# Altium schematic symbol library Connectors.SchLib: 325 symbols (part 4 of 4)
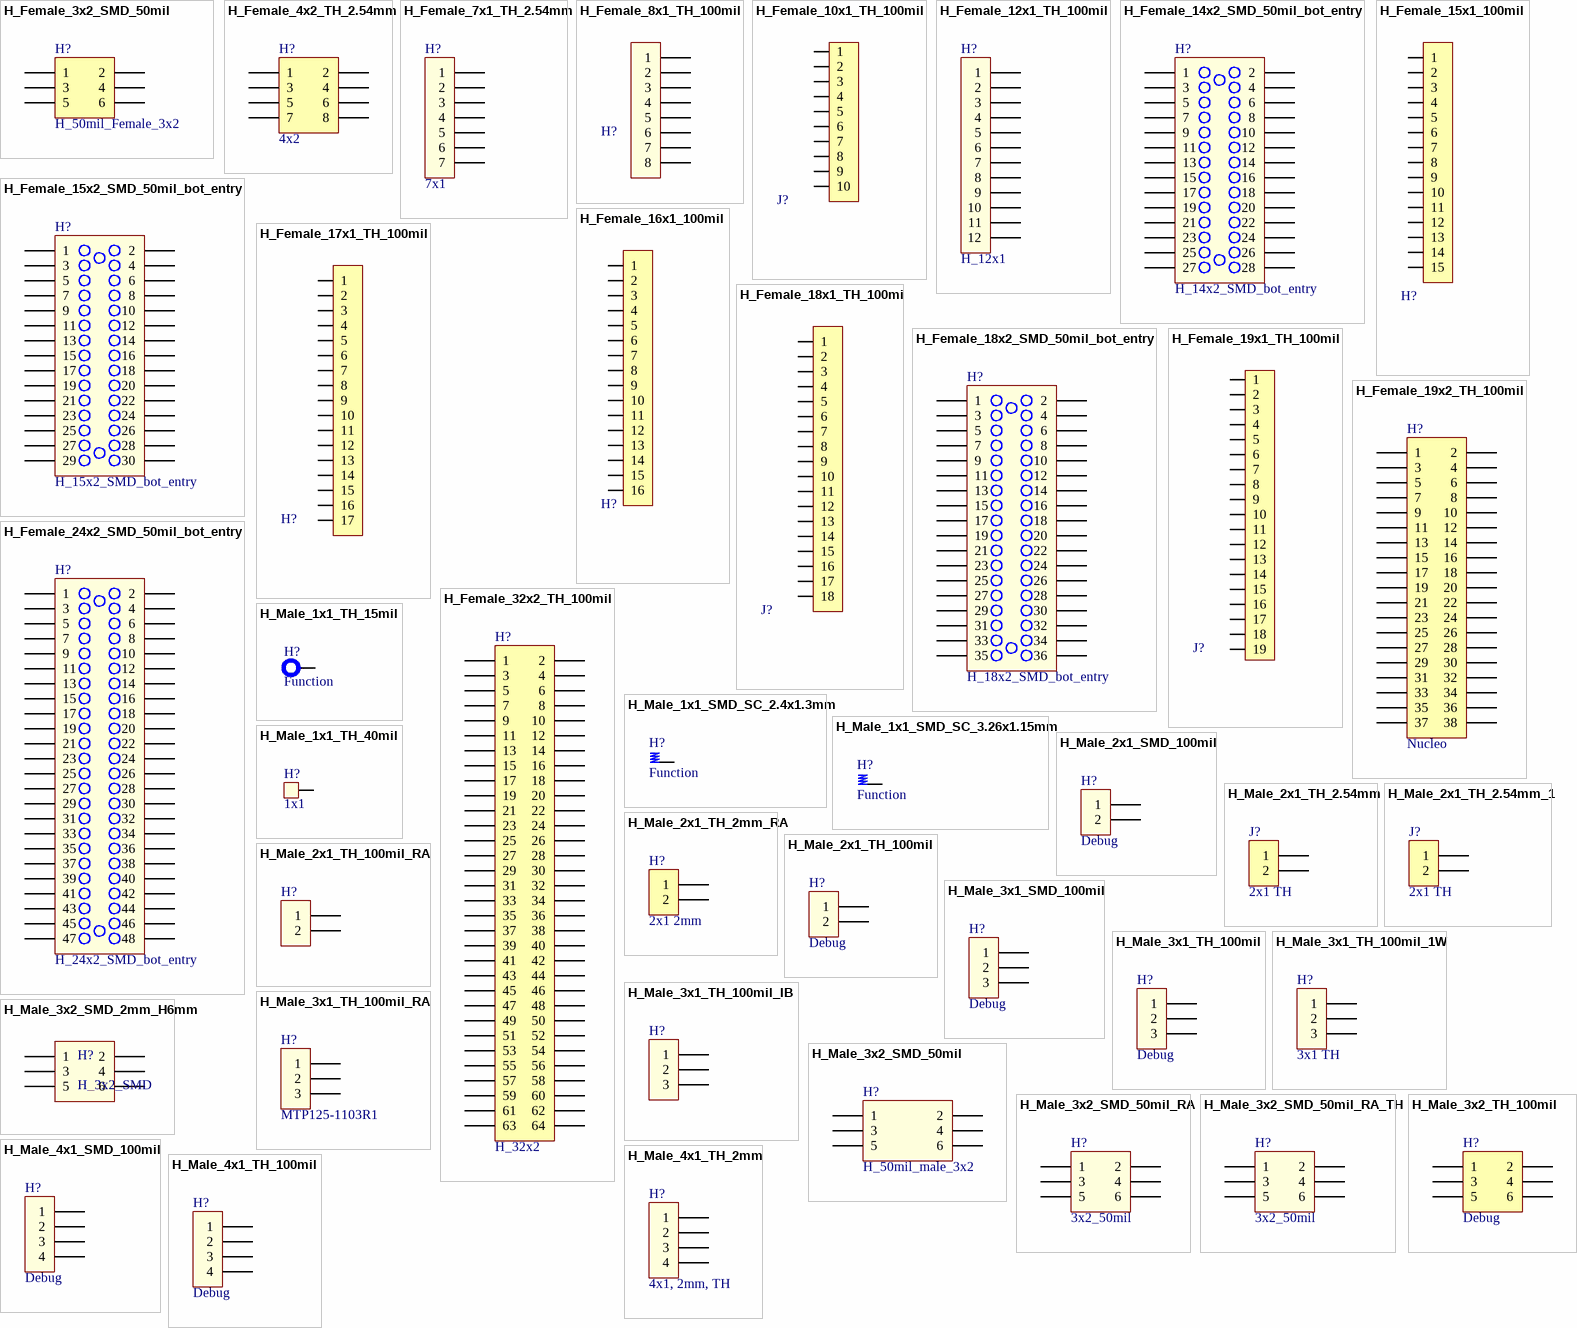
[diagram p12: symbols H_Female_3x2_SMD_50mil to H_Male_4x1_TH_100mil]

## H_Male_3x2_SMD_50mil_RA_TH
designator H?, comment 3x2_50mil
CONN HEADER TH R/A 6POS 1.27MM; Manufacturer Part Number: PH1.27x2.5-2x3WG2P1M2 B=4mm; Manufacturer: Realrun; Last modified date: 20240310; Last modified by: J.Jaramillo; Reel Stock: N/A; Supplier 1: Poshton; Supplier Part Number 1: PH1.27x2.5-2x3WG2P1M2 B=4mm; ComponentLink1URL: https://www.digikey.tw/products/en?keywords=3M6475-ND
footprint H_3x2_TH_50mil_R/A (/ 20200416/ C-A.Serna.A)
pins: 1, 2, 3, 4, 5, 6

## H_Male_3x2_TH_100mil
designator H?, comment Debug  (no BOM)
Debugging male pin; Last modified by: J.Jaramillo; Last modified date: 20240310; Reel Stock: N/A
footprint H_3x2_TH_100mil (/ 20190222 / C-A.Serna.A)
pins: 1, 2, 3, 4, 5, 6

## H_Male_4x1_SMD_100mil
designator H?, comment Debug  (no BOM)
Debugging male pin SMT; Last modified by: J.Jaramillo; Last modified date: 20240310; Reel Stock: N/A
footprint H_4x1_SMD_100mil (/ 20190221 / C-A.Serna.A)
pins: 1, 2, 3, 4

## H_Male_4x1_TH_2mm
designator H?, comment 4x1, 2mm, TH
CONN HEADER VERT 4POS 2MM; Manufacturer: M22-2010405; Manufacturer Part Number: Harwin Inc.; Supplier 1: Digi-Key; Supplier Part Number 1: 952-2275-ND; Reel Stock: N/A; Last modified by: J.Jaramillo; Last modified date: 20240310; ComponentLink1Description: Digi-Key; ComponentLink1URL: https://www.digikey.com/en/products/detail/harwin-inc/M22-2010405/3728239
footprint H_4x1_TH_2mm (/20210714/M-C.Calderon)
pins: 1, 2, 3, 4

## H_Male_4x1_TH_100mil
designator H?, comment Debug  (no BOM)
Debugging male pin; Last modified by: J.Jaramillo; Last modified date: 20240310; Reel Stock: N/A
footprint H_4x1_TH_100mil (/ 20190222 / C-A.Serna.A)
pins: 1, 2, 3, 4

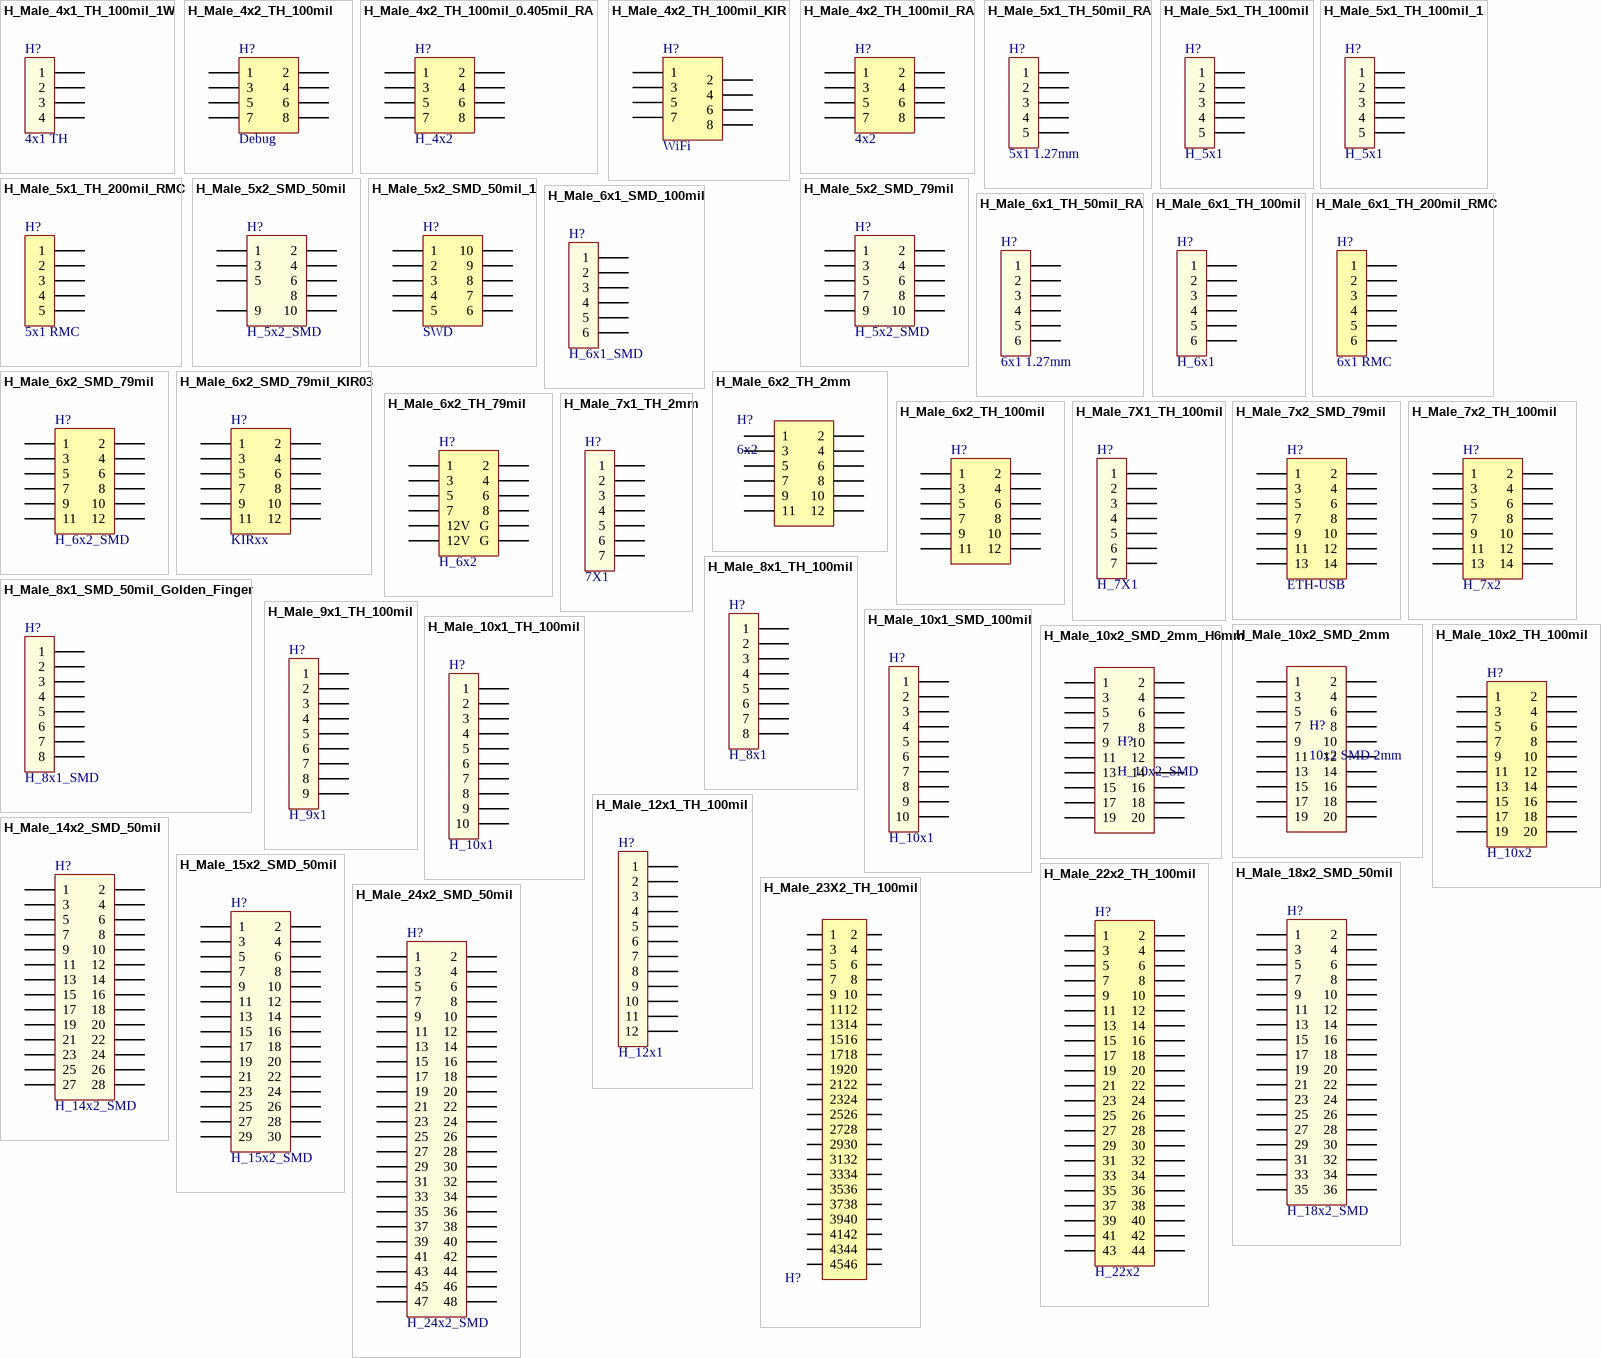
[diagram p8: symbols H_Male_4x1_TH_100mil_1W to H_Male_24x2_SMD_50mil]

## H_Male_4x1_TH_100mil_1W
designator H?, comment 4x1 TH
CONN HEADER VERT 4POS 2.54MM; Manufacturer: Molex; Manufacturer Part Number: 0022232041; Supplier 1: Digi-Key; Supplier Part Number 1: WM4202-ND; Reel Stock: N/A; Last modified by: J.Jaramillo; Last modified date: 20240310; ComponentLink1Description: Digi-Key; ComponentLink1URL: https://www.digikey.com/product-detail/en/molex/0022232041/WM4202-ND/26671
footprint H_4X1_TH_100mil_1W (/20200319/C-A.Serna.A)
pins: 1, 2, 3, 4

## H_Male_4x2_TH_100mil
designator H?, comment Debug  (no BOM)
Header Debuggind Male Pin; Last modified by: J.Jaramillo; Last modified date: 20240310; Reel Stock: N/A
footprint H_4x2_TH_100MIL (/ 20210215 / M-C.Calderon)
footprint H_4x2_TH_100mil_BRK (/20210423/M-C.Calderon)
pins: 1, 2, 3, 4, 5, 6, 7, 8

## H_Male_4x2_TH_100mil_0.405mil_RA
designator H?, comment H_4x2
CONN HEADER R/A 8POS 2.54MM; Manufacturer: 3M; Manufacturer Part Number: 929838-02-04-RK; Supplier 1: Digi-Key; Supplier Part Number 1: 3M156514-08-ND; Reel Stock: N/A; Last modified by: J.Jaramillo; Last modified date: 20240310; ComponentLink1Description: Digi-Key; ComponentLink1URL: https://www.digikey.com/en/products/detail/3m/929838-02-04-RK/1094113?s=N4IgTCBcDaIMwFkAEBGArANjSgLAWgAYAOPAOQBEQBdAXyA
footprint H_MALE_4x2_TH_100MIL_0.405MIL_RA (A-F. Romo / 20221019)
pins: 1, 2, 3, 4, 5, 6, 7, 8

## H_Male_4x2_TH_100mil_KIR
designator H?, comment WiFi
Header for WiFi breakout KIR01; Manufacturer: TBD; Last modified by: J.Jaramillo; Last modified date: 20240310; Manufacturer Part Number: TBD; Supplier 1: Poshton; Supplier Part Number 1: TBD; Reel Stock: N/A
footprint H_4x2_TH_100mil_KIR (/ 20190221 / C-A.Serna.A)
pins: 1, 2, 3, 4, 5, 6, 7, 8

## H_Male_4x2_TH_100mil_RA
designator H?, comment 4x2
HEADER 8 POS 100MIL; Manufacturer: XFCN; Manufacturer Part Number: PZ254R-12-8P; Supplier 1: LCSC; Supplier Part Number 1: C492432; Reel Stock: N/A; Last modified by: J.Jaramillo; Last modified date: 20240310; ComponentLink1Description: LCSC; ComponentLink1URL: https://lcsc.com/product-detail/Pin-Header-Female-Header_XFCN-PZ254R-12-8P_C492432.html
footprint H_4x2_TH_100MIL_RA (/ 20210827 / N-A.Potosi)
pins: 1, 2, 3, 4, 5, 6, 7, 8

## H_Male_5x1_TH_50mil_RA
designator H?, comment 5x1 1.27mm
CONN HEADER R/A 5POS 1.27MM; Manufacturer: Harwin Inc.; Manufacturer Part Number: M50-3930542; Supplier 1: Digi-Key; Supplier Part Number 1: 952-3617-ND; Reel Stock: N/A; Last modified by: J.Jaramillo; Last modified date: 20240310; ComponentLink1Description: Digi-Key; ComponentLink1URL: https://www.digikey.com/en/products/detail/harwin-inc/M50-3930542/7044032
footprint H_MALE_5X1_TH_50MIL_RA (20220518 / E.Naranjo)
pins: 1, 2, 3, 4, 5

## H_Male_5x1_TH_100mil
designator H?, comment H_5x1  (no BOM)
Debugging male pin; Last modified by: J.Jaramillo; Last modified date: 20240310; Reel Stock: N/A
footprint H_5x1_TH_100mil (/ 20190222 / C-A.Serna.A)
pins: 1, 2, 3, 4, 5

## H_Male_5x1_TH_100mil_1
designator H?, comment H_5x1
CONN HEADER VERT 5POS 2.54MM; Manufacturer: Adam Tech; Manufacturer Part Number: PH1-05-UA; Supplier 1: Digi-Key; Supplier Part Number 1: 2057-PH1-05-UA-ND; Last modified by: J.Jaramillo; Last modified date: 20240310; Reel Stock: N/A; ComponentLink1Description: Digi-key; ComponentLink1URL: https://www.digikey.com/product-detail/en/adam-tech/PH1-05-UA/2057-PH1-05-UA-ND/9830343
footprint H_5x1_TH_100mil_1 (/ 20191121 / J-P.Vargas.A)
pins: 1, 2, 3, 4, 5

## H_Male_5x1_TH_200mil_RMC
designator H?, comment 5x1 RMC
CONN HEADER VERT 5POS 5.08MM; Manufacturer: Molex; Manufacturer Part Number: 0010085051; Supplier 1: Digi-Key; Supplier Part Number 1: WM4334-ND; Reel Stock: N/A; Last modified by: J.Jaramillo; Last modified date: 20240310; ComponentLink1Description: Digi-Key; ComponentLink1URL: https://www.digikey.com/product-detail/en/molex/0010085051/WM4334-ND/2421265
footprint H_5x1_TH_200mil_RMC (/ 20200321/ C-A.Serna.A)
pins: 1, 2, 3, 4, 5

## H_Male_5x2_SMD_50mil
designator H?, comment H_5x2_SMD
CONN HEADER 10POS DL UNSHRD SMD; Manufacturer: Amphenol FCI; Manufacturer Part Number: 20021121-00010C4LF; ComponentLink1URL: https://www.digikey.tw/products/en?keywords=609-3695-1-ND; Last modified by: J.Jaramillo; Last modified date: 20240310; ComponentLink1Description: Digi-key; Reel Stock: N/A; Supplier 1: Digi-Key; Supplier Part Number 1: 609-3695-1-ND
footprint H_5x2_SMD_50mil_nRF (/ 20190222 / C-A.Serna.A)
pins: 1, 2, 3, 4, 5, 6, 8, 9, 10

## H_Male_5x2_SMD_50mil_1
designator H?, comment SWD
CONN HEADER SMD 10POS 1.27MM; Manufacturer: Amphenol ICC (FCI); Manufacturer Part Number: 20021121-00010C4LF; Supplier 1: Digi-key; Supplier Part Number 1: 609-3695-1-ND; Reel Stock: N/A; Last modified by: J.Jaramillo; Last modified date: 20240310; ComponentLink1Description: Digi-key; ComponentLink1URL: https://www.digikey.com/products/en?keywords=609-3695-1-ND
footprint H_5x2_SMD_50MIL (/20200728/M-C.Calderon)
pins: 1, 2, 3, 4, 5, 6, 7, 8, 9, 10

## H_Male_5x2_SMD_79mil
designator H?, comment H_5x2_SMD
CONN HEADER SMD 10POS 2MM; Manufacturer: Amphenol ICC (FCI); Manufacturer Part Number: 57202-G52-05LF; ComponentLink1URL: https://www.digikey.com/products/en?keywords=609-2610-ND; Last modified by: J.Jaramillo; Last modified date: 20240310; ComponentLink1Description: Digi-key; Reel Stock: N/A; Supplier 1: Digi-Key; Supplier Part Number 1: 609-2610-ND
footprint H_5x2_SMD_79mil (/ 20190909 / C-D Viveros)
pins: 1, 2, 3, 4, 5, 6, 7, 8, 9, 10

## H_Male_6x1_SMD_100mil
designator H?, comment H_6x1_SMD  (no BOM)
CONN HEADER SMD 6POS 2.54MM; Manufacturer: METZ CONNECT USA Inc.; Manufacturer Part Number: PM20206VBNN; Last modified by: J.Jaramillo; Last modified date: 20240310; Reel Stock: N/A; ComponentLink1URL: https://www.digikey.tw/products/en?keywords=1849-1036-ND; ComponentLink1Description: Digi-Key; Supplier 1: Digi-Key; Supplier Part Number 1: 1849-1036-ND
footprint H_6x1_SMD_100mil (/ 20190222 / C-A.Serna.A)
pins: 1, 2, 3, 4, 5, 6

## H_Male_6x1_TH_50mil_RA
designator H?, comment 6x1 1.27mm
CONN HEADER R/A 6POS 1.27MM; Manufacturer: Harwin Inc.; Manufacturer Part Number: M50-3930642; Supplier 1: Digi-Key; Supplier Part Number 1: 952-3618-ND; Reel Stock: N/A; Last modified by: J.Jaramillo; Last modified date: 20240310; ComponentLink1Description: Digi-Key; ComponentLink1URL: https://www.digikey.com/en/products/detail/harwin-inc/M50-3930642/7044033?s=N4IgTCBcDaIJwFYwFoDMA2AjADmQOQBEQBdAXyA
footprint H_MALE_6X1_1.27MM_RA (20220516 / E.Naranjo)
pins: 1, 2, 3, 4, 5, 6

## H_Male_6x1_TH_100mil
designator H?, comment H_6x1  (no BOM)
Debugging male pin; Last modified by: J.Jaramillo; Last modified date: 20240310; Reel Stock: N/A
footprint H_6x1_TH_100mil (/ 20190222 / C-A.Serna.A)
pins: 1, 2, 3, 4, 5, 6

## H_Male_6x1_TH_200mil_RMC
designator H?, comment 6x1 RMC
CONN HEADER VERT 6POS 5.08MM; Manufacturer: Molex; Manufacturer Part Number: 0010085061; Supplier 1: Digi-Key; Supplier Part Number 1: WM4335-ND; Reel Stock: N/A; Last modified by: J.Jaramillo; Last modified date: 20240310; ComponentLink1Description: Digi-Key; ComponentLink1URL: https://www.digikey.com/product-detail/en/molex/0010085061/WM4335-ND/2421266
footprint H_6x1_TH_200mil_RMC (/ 20200321/ C-A.Serna.A)
pins: 1, 2, 3, 4, 5, 6

## H_Male_6x2_SMD_79mil
designator H?, comment H_6x2_SMD
CONN HEADER SMD 12POS 2MM; Manufacturer Part Number: 0877591274; Manufacturer: Molex; ComponentLink1URL: https://www.digikey.com/products/en?keywords=WM3790CT-ND; Last modified date: 20240310; Last modified by: J.Jaramillo; Reel Stock: N/A; Supplier 1: Digi-key; Supplier Part Number 1: WM3790CT-ND; ComponentLink1Description: Digi-key; ComponentLink1URL: https://www.digikey.tw/products/en?keywords=3M6475-ND
footprint H_6x2_SMD_79mil (/ 20200722 /C-D Viveros)
pins: 1, 2, 3, 4, 5, 6, 7, 8, 9, 10, 11, 12

## H_Male_6x2_SMD_79mil_KIR03
designator H?, comment KIRxx
CONN HEADER SMD 12POS 2MM; Manufacturer: Molex; Manufacturer Part Number: 0877591274; Supplier 1: Digi-Key; Supplier Part Number 1: WM3790CT-ND; Reel Stock: N/A; Last modified by: J.Jaramillo; Last modified date: 20240310; ComponentLink1Description: Digi-Key; ComponentLink1URL: https://www.digikey.com/products/en?keywords=WM3790CT-ND
footprint H_6x2_SMD_79mil_KIRxx_2 (/20200429/V-A.Patino)
footprint H_6x2_SMD_79mil_KIRxx_1 (/20200429/V-A.Patino)
pins: 1, 2, 3, 4, 5, 6, 7, 8, 9, 10, 11, 12

## H_Male_6x2_TH_2mm
designator H?, comment 6x2
CONN HEADER VERT 12POS 2MM; Manufacturer: Amphenol ICC (FCI); Manufacturer Part Number: 57102-G06-06LF; Supplier 1: Digi-Key; Supplier Part Number 1: 609-2595-ND; Reel Stock: N/A; Last modified by: J.Jaramillo; Last modified date: 20240310; ComponentLink1Description: Digi-Key; ComponentLink1URL: https://www.digikey.com/en/products/detail/amphenol-cs-fci/57102-G06-06LF/1090066?s=N4IgTCBcDaIKwHYCMAGMBaA4igbO3AMgGIgC6AvkA
footprint H_MALE_6X2_TH_2MM (20230627 / E.Naranjo)
pins: 1, 2, 3, 4, 5, 6, 7, 8, 9, 10, 11, 12

## H_Male_6x2_TH_79mil
designator H?, comment H_6x2
CONN HEADER R/A 12POS 2MM; Manufacturer: Samtec Inc.; Manufacturer Part Number: TMM-106-01-T-D-RA; Supplier 1: Digi-key; Supplier Part Number 1: SAM12165-ND; Last modified by: J.Jaramillo; Last modified date: 20240310; Reel Stock: N/A; ComponentLink1Description: Digi-key; ComponentLink1URL: https://www.digikey.com/product-detail/en/samtec-inc/TMM-106-01-T-D-RA/SAM12165-ND/6691921
footprint H_6x2_TH_79MIL_PSU_KIRXX (20190515 / V-A.Patino)
pins: 1, 2, 3, 4, 5, 6, 7, 8, 9 12V, 10 G, 11 12V, 12 G

## H_Male_6x2_TH_100mil
designator H?
CONN HEADER SMD 12POS 2.54MM; Manufacturer: Amphenol ICC (FCI); Manufacturer Part Number: 10129381-912002BLF; Supplier 1: Digi-Key; Supplier Part Number 1: 10129381-912002BLF-ND; Reel Stock: N/A; Last modified by: J.Jaramillo; Last modified date: 20240310; ComponentLink1Description: Digi-Key; ComponentLink1URL: https://www.digikey.com/en/products/detail/amphenol-icc-fci/10129381-912002BLF/7916083
footprint H_6x2_TH_100mil (/ 20210811 / V-A.Patino)
pins: 1, 2, 3, 4, 5, 6, 7, 8, 9, 10, 11, 12

## H_Male_7x1_TH_2mm
designator H?, comment 7X1
WR-WTB WIRE-TO-BOARD CONNECTORS; Manufacturer: Würth Elektronik; Manufacturer Part Number: 62000711622; Supplier 1: Digi-Key; Supplier Part Number 1: 62000711622; Reel Stock: N/A; Last modified by: J.Jaramillo; Last modified date: 20240310; ComponentLink1Description: Digi-Key; ComponentLink1URL: https://www.digikey.com/en/products/detail/w%C3%BCrth-elektronik/62000711622/16608572?s=N4IgTCBcDaIGxgAzIOwEY0IgXQL5A
footprint H_7x1_TH_79MIL (/20220804/J-E.Pachon)
pins: 1, 2, 3, 4, 5, 6, 7

## H_Male_7X1_TH_100mil
designator H?, comment H_7X1  (no BOM)
CONN HEADER VERT 7POS 2.54MM; Manufacturer: Sullins Connector Solutions; Manufacturer Part Number: PREC007SAAN-RC; Last modified by: J.Jaramillo; Last modified date: 20240310; Supplier 1: Digi-Key; Supplier Part Number 1: S1012EC-07-ND; Reel Stock: N/A; ComponentLink1Description: Digi-Key; ComponentLink1URL: https://www.digikey.com/en/products/detail/sullins-connector-solutions/PREC007SAAN-RC/2774847?s=N4IgTCBcDaIMoEYAMCwFEDCBaJB2LAcgCIgC6AvkA
footprint H_7x1_TH_100mil (/ 20190829 / M-X.Arias)
pins: 1, 2, 3, 4, 5, 6, 7

## H_Male_7x2_SMD_79mil
designator H?, comment ETH-USB
CONN HEADER SMD 14POS 2MM; Manufacturer: Amphenol ICC (FCI); Manufacturer Part Number: 57202-G52-07LF; Supplier 1: Digi-Key; Supplier Part Number 1: 609-2619-ND; Reel Stock: N/A; Last modified by: J.Jaramillo; Last modified date: 20240310; ComponentLink1Description: Digi-Key; ComponentLink1URL: https://www.digikey.com/products/en?keywords=609-2619-ND
footprint H_7X2_SMD_79MIL (/20200714/N-A.Potosi)
pins: 1, 2, 3, 4, 5, 6, 7, 8, 9, 10, 11, 12, 13, 14

## H_Male_7x2_TH_100mil
designator H?, comment H_7x2  (no BOM)
CONN HEADER VERT 14POS 2.54MM; Manufacturer: Sullins Connector Solutions; Manufacturer Part Number: PREC007DAAN-RC; Supplier 1: Digi-Key; Supplier Part Number 1: S2012EC-07-ND; Last modified by: J.Jaramillo; Last modified date: 20240310; Reel Stock: N/A; ComponentLink1Description: Digi-Key; ComponentLink1URL: https://www.digikey.com/product-detail/en/sullins-connector-solutions/PREC007DAAN-RC/S2012EC-07-ND/2774887
footprint H_7x2_TH_100mil (/ 20190614 / J-P.Vargas.A)
pins: 1, 2, 3, 4, 5, 6, 7, 8, 9, 10, 11, 12, 13, 14

## H_Male_8x1_SMD_50mil_Golden_Finger
designator H?, comment H_8x1_SMD  (no BOM)
CBL RIBN 8COND 0.050 GRAY 1'; Manufacturer: 3M; Manufacturer Part Number: 3365/08 100; Last modified by: J.Jaramillo; Last modified date: 20240310; Reel Stock: N/A; Supplier 1: Digi-Key; Supplier Part Number 1: 3M155833-1-STRIPPED-ND; ComponentLink1Description: Digi-Key; ComponentLink1URL: https://www.digikey.com/product-detail/en/3m/3365-08-100/3M155833-1-STRIPPED-ND/8635323
footprint H_8x1_SMD_50mil (/ 20190916/ N A potosi)
pins: 1, 2, 3, 4, 5, 6, 7, 8

## H_Male_8x1_TH_100mil
designator H?, comment H_8x1  (no BOM)
Debugging male pin; Last modified by: J.Jaramillo; Last modified date: 20240310; Reel Stock: N/A
footprint H_8x1_TH_100mil (/ 20190823 / C-D Viveros)
pins: 1, 2, 3, 4, 5, 6, 7, 8

## H_Male_9x1_TH_100mil
designator H?, comment H_9x1  (no BOM)
Debugging male pin; Last modified by: J.Jaramillo; Last modified date: 20240310; Reel Stock: N/A
footprint H_9x1_TH_100mil (/ 20190919 / C-D Viveros)
pins: 1, 2, 3, 4, 5, 6, 7, 8, 9

## H_Male_10x1_SMD_100mil
designator H?, comment H_10x1
CONN HEADER SMD 10POS 2.54MM; Manufacturer: Amphenol ICC (FCI); Manufacturer Part Number: 10129380-910002ALF; Supplier 1: Digi-Key; Supplier Part Number 1: 609-10129380-910002ALFCT-ND; Last modified by: J.Jaramillo; Last modified date: 20240310; Reel Stock: N/A
footprint H_10x1_SMD_100mil (/ 20210811 / V-A.Patino)
pins: 1, 2, 3, 4, 5, 6, 7, 8, 9, 10

## H_Male_10x1_TH_100mil
designator H?, comment H_10x1  (no BOM)
Debugging male pin; Last modified by: J.Jaramillo; Last modified date: 20240310; Reel Stock: N/A
footprint H_10x1_TH_100mil (/ 20190911 / C-D Viveros)
pins: 1, 2, 3, 4, 5, 6, 7, 8, 9, 10

## H_Male_10x2_SMD_2mm
designator H?, comment 10x2 SMD 2mm
CONN HEADER SMD 20POS 2MM; Manufacturer: Molex; Manufacturer Part Number: 0877592074; Supplier 1: Digi-Key; Supplier Part Number 1: WM26782CT-ND; Reel Stock: N/A; Last modified by: J.Jaramillo; Last modified date: 20240310; ComponentLink1Description: Digi-Key; ComponentLink1URL: https://www.digikey.com/en/products/detail/molex/0877592074/3313034?s=N4IgTCBcDaIBwHYEFYCcBaMAGBAWEAugL5A
footprint H_10x2_SMD_2mm (/20230119/J-A.Sepulveda)
pins: 1, 2, 3, 4, 5, 6, 7, 8, 9, 10, 11, 12, 13, 14, 15, 16, 17, 18, 19, 20

## H_Male_10x2_SMD_2mm_H6mm
designator H?, comment H_10x2_SMD
CONN HEADER SMD 20POS 2MM; Manufacturer: RealRun Electronic; Manufacturer Part Number: PH2.0*1.5-2*10T B3.9 W6.5 E2.1 6T 1U (WITH POST); Supplier 1: Poshton; Supplier Part Number 1: PH2.0*1.5-2*10T B3.9 W6.5 E2.1 6T 1U (WITH POST); Reel Stock: N/A; Last modified by: J.Jaramillo; Last modified date: 20240310; ComponentLink1Description: Datasheet; ComponentLink1URL: https://drive.google.com/file/d/1JPzu1F8oawhlm6ms1WCOraaywETR9AVm/view?usp=drive_link
footprint H_Male_10x2_SMD_2mm_H6mm (/20230621/J-A.Sepulveda)
pins: 1, 2, 3, 4, 5, 6, 7, 8, 9, 10, 11, 12, 13, 14, 15, 16, 17, 18, 19, 20

## H_Male_10x2_TH_100mil
designator H?, comment H_10x2  (no BOM)
CONN HEADER VERT 20POS 2.54MM; Manufacturer: Sullins Connector Solutions; Manufacturer Part Number: PREC010DAAN-RC; Supplier 1: Digi-Key; Supplier Part Number 1: S2012EC-10-ND; Last modified by: J.Jaramillo; Last modified date: 20240310; Reel Stock: N/A; ComponentLink1Description: Digi-Key; ComponentLink1URL: https://www.digikey.com/product-detail/en/sullins-connector-solutions/PREC010DAAN-RC/S2012EC-10-ND/2774884
footprint H_10x2_TH_100mil (/ 20190625 / J-P.Vargas.A)
pins: 1, 2, 3, 4, 5, 6, 7, 8, 9, 10, 11, 12, 13, 14, 15, 16, 17, 18, 19, 20

## H_Male_12x1_TH_100mil
designator H?, comment H_12x1
CONN HEADER VERT 12POS 2.54MM; Manufacturer: Adam Tech; Manufacturer Part Number: PH1-12-UA; Supplier 1: Digi-Key; Supplier Part Number 1: 2057-PH1-12-UA-ND; Last modified by: J.Jaramillo; Last modified date: 20240310; Reel Stock: N/A; ComponentLink1Description: Digi-Key; ComponentLink1URL: https://www.digikey.com/en/products/detail/adam-tech/PH1-12-UA/9830395
footprint H_12x1_TH_100mil (/ 20210825/ V-A.Patino)
pins: 1, 2, 3, 4, 5, 6, 7, 8, 9, 10, 11, 12

## H_Male_14x2_SMD_50mil
designator H?, comment H_14x2_SMD
CONN HEADER SMD 28POS 1.27MM; Manufacturer: REALRUN; Manufacturer Part Number: PH1.27×1.0-2X14T; Last modified by: J.Jaramillo; Last modified date: 20240310; Reel Stock: N/A; Supplier 1: Poshton; Supplier Part Number 1: PH1.27×1.0-2X14T
footprint H_14x2_SMD_50mil (/ 20220119/ C-D Viveros)
pins: 1, 2, 3, 4, 5, 6, 7, 8, 9, 10, 11, 12, 13, 14, 15, 16, 17, 18, 19, 20, 21, 22, 23, 24, 25, 26, 27, 28

## H_Male_15x2_SMD_50mil
designator H?, comment H_15x2_SMD
CONN HEADER SMD 30POS 1.27MM; Manufacturer: REALRUN; Manufacturer Part Number: PH1.27×1.0-2X15T; Last modified by: J.Jaramillo; Last modified date: 20240310; Reel Stock: N/A; Supplier 1: Poshton; Supplier Part Number 1: PH1.27×1.0-2X15T
footprint H_15x2_SMD_50mil (/ 20220908/ N-A.Potosi)
pins: 1, 2, 3, 4, 5, 6, 7, 8, 9, 10, 11, 12, 13, 14, 15, 16, 17, 18, 19, 20, 21, 22, 23, 24, 25, 26, 27, 28, 29, 30

## H_Male_18x2_SMD_50mil
designator H?, comment H_18x2_SMD
CONN HEADER SMD 36POS 1.27MM; Manufacturer: REALRUN; Manufacturer Part Number: PH1.27×1.0-2X18T; Last modified by: J.Jaramillo; Last modified date: 20240310; Reel Stock: N/A; Supplier 1: Poshton; Supplier Part Number 1: PH1.27×1.0-2X18T
footprint H_18x2_SMD_50mil (/ 20220119 / C-D Viveros)
pins: 1, 2, 3, 4, 5, 6, 7, 8, 9, 10, 11, 12, 13, 14, 15, 16, 17, 18, 19, 20, 21, 22, 23, 24, 25, 26, 27, 28, 29, 30, 31, 32, 33, 34, 35, 36

## H_Male_22x2_TH_100mil
designator H?, comment H_22x2  (no BOM)
CONN HEADER VERT 44POS 2.54MM; Last modified by: J.Jaramillo; Last modified date: 20240310; Reel Stock: N/A
footprint H_22x2_TH_100mil (Header 100 Mil / 20200309/N-A.Potosi)
pins: 1, 2, 3, 4, 5, 6, 7, 8, 9, 10, 11, 12, 13, 14, 15, 16, 17, 18, 19, 20, 21, 22, 23, 24, 25, 26, 27, 28, 29, 30, 31, 32, 33, 34, 35, 36, 37, 38, 39, 40, 41, 42, 43, 44

## H_Male_23X2_TH_100mil
designator H?
CONN HEADER VERT 46POS 2.54MM; Manufacturer: Sullins Connector Solutions; Manufacturer Part Number: PREC023DFAN-RC; Supplier 1: Digi-Key; Supplier Part Number 1: S2212EC-23-ND; Reel Stock: N/A; Last modified by: J.Jaramillo; Last modified date: 20240322; ComponentLink1Description: Digi-Key; ComponentLink1URL: https://www.digikey.com/en/products/detail/sullins-connector-solutions/PREC023DFAN-RC/2774991
footprint H_MALE_23X2_100MIL (/20240322/ J.Jaramillo)
pins: 1, 2, 3, 4, 5, 6, 7, 8, 9, 10, 11, 12, 13, 14, 15, 16, 17, 18, 19, 20, 21, 22, 23, 24, 25, 26, 27, 28, 29, 30, 31, 32, 33, 34, 35, 36, 37, 38, 39, 40, 41, 42, 43, 44, 45, 46

## H_Male_24x2_SMD_50mil
designator H?, comment H_24x2_SMD
CONN HEADER SMD 48POS 1.27MM; Manufacturer: REALRUN; Manufacturer Part Number: PH1.27×1.0-2X24T; Last modified by: J.Jaramillo; Last modified date: 20240310; Reel Stock: N/A; Supplier 1: Poshton; Supplier Part Number 1: PH1.27×1.0-2X24T
footprint H_24x2_SMD_50mil (/ 20220119 / C-D Viveros)
pins: 1, 2, 3, 4, 5, 6, 7, 8, 9, 10, 11, 12, 13, 14, 15, 16, 17, 18, 19, 20, 21, 22, 23, 24, 25, 26, 27, 28, 29, 30, 31, 32, 33, 34, 35, 36, 37, 38, 39, 40, 41, 42, 43, 44, 45, 46, 47, 48

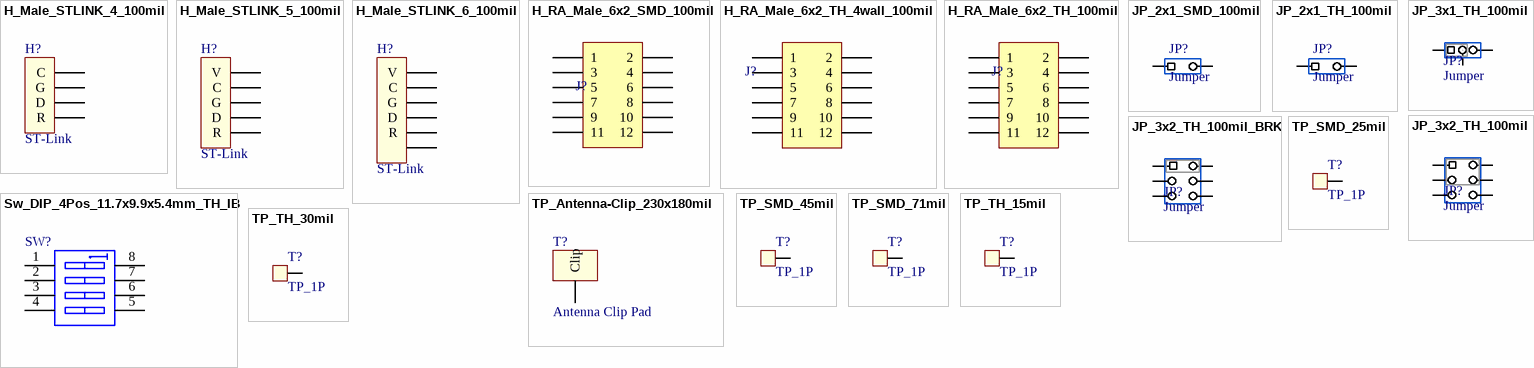
[diagram p9: symbols H_Male_STLINK_4_100mil to TP_TH_30mil]

## H_Male_STLINK_4_100mil
designator H?, comment ST-Link  (no BOM)
STLINK Debugging; Last modified by: J.Jaramillo; Last modified date: 20240310; Reel Stock: N/A
footprint H_4x1_TH_100mil (/ 20190222 / C-A.Serna.A)
footprint H_4x1_SMD_100mil (/ 20190221 / C-A.Serna.A)
pins: 1 C, 2 G, 3 D, 4 R

## H_Male_STLINK_5_100mil
designator H?, comment ST-Link  (no BOM)
STLINK Debugging; Last modified by: J.Jaramillo; Last modified date: 20240310
footprint H_5x1_TH_100mil (/ 20190222 / C-A.Serna.A)
pins: 1 V, 2 C, 3 G, 4 D, 5 R

## H_Male_STLINK_6_100mil
designator H?, comment ST-Link  (no BOM)
STLINK Debugging; Last modified by: J.Jaramillo; Last modified date: 20240310; Reel Stock: N/A
footprint H_6x1_TH_100mil (/ 20190222 / C-A.Serna.A)
pins: 1 V, 2 C, 3 G, 4 D, 5 R, 6

## H_RA_Male_6x2_SMD_100mil
designator J?, comment 6x2  (value not drawn)
CONN HEADER SMD R/A 12POS 2.54MM; Manufacturer: Samtec Inc.; Manufacturer Part Number: TSM-106-01-T-DH; Supplier 1: Digi-Key; Supplier Part Number 1: SAM8986-ND; Reel Stock: N/A; Last modified by: J.Jaramillo; Last modified date: 20240310; ComponentLink1Description: Digi-Key; ComponentLink1URL: https://www.digikey.com/en/products/detail/samtec-inc/TSM-106-01-T-DH/2685652
footprint H_MALE_6x2_SMD (/20221116/J.Jaramillo)
pins: 1, 2, 3, 4, 5, 6, 7, 8, 9, 10, 11, 12

## H_RA_Male_6x2_TH_4wall_100mil
designator J?, comment 6X2  (value not drawn)
CONN HEADER R/A 12POS 2.54MM 4wall; Manufacturer: Adam Tech; Manufacturer Part Number: BHR-12-HUA; Supplier 1: Digi-Key; Supplier Part Number 1: 2057-BHR-12-HUA-ND; Reel Stock: N/A; Last modified by: J.Jaramillo; Last modified date: 20240310
footprint H_6x2_TH_100mil _Shrouded (/ 20221122 / J.Jaramillo)
pins: 1, 2, 3, 4, 5, 6, 7, 8, 9, 10, 11, 12

## H_RA_Male_6x2_TH_100mil
designator J?, comment CONN HEADER R/A 12POS 2.54MM  (value not drawn)
Manufacturer: Amphenol ICC (FCI); Manufacturer Part Number: 10129382-912002BLF; Supplier 1: Digi-Key; Supplier Part Number 1: 10129382-912002BLF-ND; Reel Stock: N/A; Last modified by: J.Jaramillo; Last modified date: 20240310; ComponentLink1Description: Digi-Key; ComponentLink1URL: https://www.digikey.com/en/products/detail/amphenol-cs-fci/10129382-912002BLF/7916140
footprint H_6x2_TH_100mil -RA (/ 20221116 / J.Jaramillo)
pins: 1, 2, 3, 4, 5, 6, 7, 8, 9, 10, 11, 12

## JP_2x1_SMD_100mil
designator JP?, comment Jumper
Jumper 2 pos mil; Last modified by: J.Jaramillo; Last modified date: 20240310
footprint H_2x1_SMD_100mil_1 (/ 20210701 / J-E.Pachon)
pins: 1, 2

## JP_2x1_TH_100mil
designator JP?, comment Jumper
Jumper 2 pos mil; Last modified by: J.Jaramillo; Last modified date: 20240310
footprint JP_2x1_TH_100mil (/ 20190222 / C-A.Serna.A)
pins: 1, 2

## JP_3x1_TH_100mil
designator JP?, comment Jumper
Jumper 3 pos 100 mil; Last modified date: 20240310; Last modified by: J.Jaramillo
footprint JP_3x1_TH_100mil (/ 20190222 / C-A.Serna.A)
pins: 1, 2, 3

## JP_3x2_TH_100mil
designator JP?, comment Jumper
Jumper 6 pos 2 rows 100 mil; Last modified date: 20240310; Last modified by: J.Jaramillo
footprint JP_3x2_TH_100mil (/ 20190411 / C-D Viveros)
pins: 1, 2, 3, 4, 5, 6

## JP_3x2_TH_100mil_BRK
designator JP?, comment Jumper
Jumper 6 pos 2 rows 100 mil; Last modified date: 20240310; Last modified by: J.Jaramillo
footprint JP_3x2_TH_100MIL_ (/ 20210215 / M-C.Calderon)
pins: 1, 2, 3, 4, 5, 6

## Sw_DIP_4Pos_11.7x9.9x5.4mm_TH_IB
designator SW?, comment SW DIP-4  (value not drawn)
SWITCH SLIDE DIP-4WAY; Manufacturer: Cixi Tonver Elec; Manufacturer Part Number: VDG-04HG-R; Supplier 1: LCSC; Supplier Part Number 1: C15781; Reel Stock: N/A; Last modified by: J.Jaramillo; Last modified date: 20240310; ComponentLink1Description: LCSC; ComponentLink1URL: https://lcsc.com/product-detail/DIP-Switches_Cixi-Tonver-Elec-VDG-S-04HG-R_C15781.html
footprint Sw_DIP_4Pos_11.7x9.9x5.4mm_IB (/20200110/V-A.Patino)
pins: 1 A1, 2 A2, 3 A3, 4 A4, 5 B4, 6 B3, 7 B2, 8 B1

## TP_Antenna-Clip_230x180mil
designator T?, comment Antenna Clip Pad
CBL CLIP C-TYPE SILVER SOLDER; Manufacturer: Harwin Inc.; Manufacturer Part Number: S8101-46R; Last modified by: J.Jaramillo; Last modified date: 20240310; Supplier 1: Digi-Key; Supplier Part Number 1: 952-1576-1-ND; Reel Stock: N/A; ComponentLink1Description: Digi-Key; ComponentLink1URL: https://www.digikey.com/en/products/detail/harwin-inc/S8101-46R/2281820?s=N4IgTCBcDaIJwFYwFoCMCDsA2NyByAIiALoC%2BQA
footprint TP_Antenna-Clip_230x180mil (/ 20200722 / C-D Viveros)
pins: 0 Clip

## TP_SMD_25mil
designator T?, comment TP_1P  (no BOM)
Test point 25mil pad size; Last modified date: 20240310; Last modified by: J.Jaramillo
footprint TP_SMD_25mil (Test_point 25mil pad size)
pins: 1

## TP_SMD_45mil
designator T?, comment TP_1P  (no BOM)
Test point 45mil pad size; Last modified by: J.Jaramillo; Last modified date: 20240310
footprint TP_SMD_45mil (/ 20190222 / C-A.Serna.A)
pins: 1

## TP_SMD_71mil
designator T?, comment TP_1P  (no BOM)
Test point 71mil pad size; Last modified by: J.Jaramillo; Last modified date: 20240310
footprint TP_SMD_71mil (/ 20220808/ J-E.Pachon)
pins: 1

## TP_TH_15mil
designator T?, comment TP_1P  (no BOM)
Test point 15mil hole size; Last modified by: J.Jaramillo; Last modified date: 20240310
footprint TP_TH_15mil
pins: 1

## TP_TH_30mil
designator T?, comment TP_1P  (no BOM)
Test point 30mil hole size; Last modified by: J.Jaramillo; Last modified date: 20240310
footprint TP_TH_30mil (Test_point 35mil hole size)
pins: 1